# Altium footprint library Switch_C&K_1101M2S3CQE2_eec_0.PcbLib: 1 footprints
Each footprint in its own frame and in the unit in brackets; x right, y up, seen from the top. Pads: shape width x height; smd on the part's side, far side on the other; paste and mask are expansions set on the pad; w line width, h text height; cw(c..) or ccw(c..) is an arc to the next point about the centre after c.
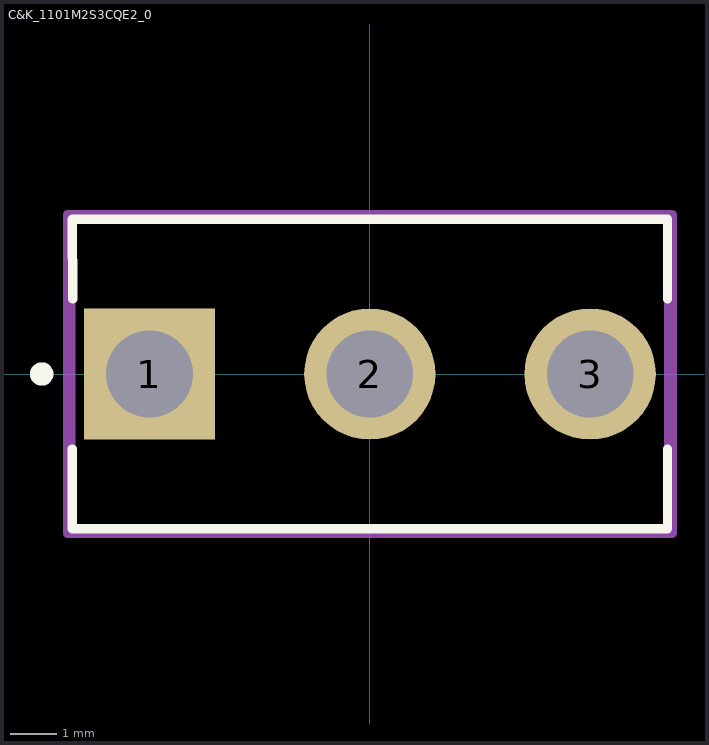
[diagram p0: the footprint, top view; thin cyan lines are the x and y axes]

## C&K_1101M2S3CQE2_0 [mm]
pads (3):
  rect 2.8x2.8 hole 1.85 paste-1000 mask+0: 1(-4.7,0)
  round 2.8 hole 1.85 paste-1000 mask+0: 2(0,0) 3(4.7,0)
Top Overlay:
  circle w0.25: c-7,0 r0.125
  lines w0.2: -6.35,-1.6 -6.35,-3.3 6.35,-3.3 6.35,-1.6 ; -6.34,1.6 -6.35,3.3 6.35,3.3 6.35,1.6
Mechanical 10:
  lines w0.2: -6.45,-3.4 6.45,-3.4 6.45,3.4 -6.45,3.4 -6.45,-3.4
  text ".Designator" at 0,0 h1
Mechanical 12:
  lines w0.15: -6.35,-3.3 -6.35,3.3 6.35,3.3 6.35,-3.3 -6.35,-3.3
Mechanical 15:
  lines w0.1: -1.02,0 1.02,0 ; 0,-1.02 0,1.02
  lines w0.2: -6.45,-3.4 6.45,-3.4 6.45,3.4 -6.45,3.4 -6.45,-3.4
3D body "3dmodel.step": height 0.25, standoff 0, extent -6.45,-3.4 6.45,3.4